# Altium schematic symbol library aiskylab-04Dio-1A.SchLib: 5 symbols
Pins are listed as number, name and electrical type; pins without a type are passive.

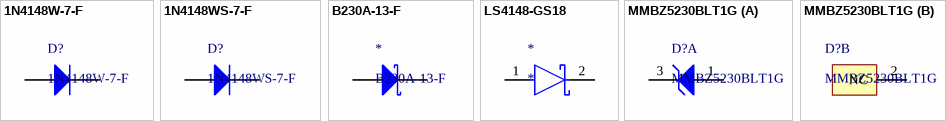
[diagram p0: symbols 1N4148W-7-F to MMBZ5230BLT1G]

## 1N4148W-7-F
designator D?
Fast Switching Diode, 100 V, 0.15 A, -65 to 150 degC, 2-Pin?SOD123, RoHS, Tape and Reel; Recovery Time: 4ns; Brand: DiodesIncorporated; Unit Weight: 0.000353oz; Max Surge Current: 2A; Peak Reverse Voltage: 100V; Ir - Reverse Current: 1uA; Vf - Forward Voltage: 1.25V; Configuration: Single; If - Forward Current: 0.15A; Product Category: Diodes-GeneralPurpose,Power,Switching; Operating Temperature Range: -65Cto+150C; Packaging: Reel; Manufacturer URL: http://www.diodes.com/; Maximum Operating Temperature: +150C; Height: 1.25mm; Minimum Operating Temperature: -65C; Product: SwitchingDiodes; Package URL: http://www.diodes.com/datasheets/ds18004.pdf; Type: SwitchingDiode; Package Reference: SOD123-2; Width: 1.7mm; Datasheet URL: http://www.farnell.com/datasheets/1915529.pdf; Datasheet Version: Rev. 24-2, 10/2013; Series: 1N4148; Factory Pack Quantity: 3000; Length: 2.85mm; RoHS: True; Manufacturer: DiodesIncorporated; Mounting Style: SMD/SMT; Package / Case: SOD-123
footprint SOD-123-1A (2.7x1.6X1.1mm（长宽高，不包括引脚）)
pins: 1 A, 2 K

## 1N4148WS-7-F
designator D?
DIODE GEN PURP 75V 150MA SOD323; Manufacturer: Diodes; Reverse Recovery Time: 4ns; Forward Voltage: 1.25V; Element Configuration: Single; Forward Current: 300mA; Peak Non-Repetitive Surge Current: 2A; Power Dissipation: 200mW; Peak Reverse Current: 1uA; Polarity: Standard; Capacitance: 2pF; Supplier 1: Digi-Key; Manufacturer Part Number: 1N4148WS-7-F; RoHS: Yes; Category: Rectifier Diodes; Stock 1: 937773; Pricing 1: 1=0.17000, 10=0.15300, 25=0.14520, 100=0.06390, 250=0.06136, 500=0.05020, 1000=0.03486 (USD); Mount: Surface Mount; Number of Pins: 2; Weight: 0.000173oz; Contact Plating: Tin,Matte; Min Operating Temperature: -65°C; Max Operating Temperature: 150°C; Packaging: Tape and Reel; Max Repetitive Reverse Voltage (Vrrm): 75V; Package Quantity: 3000; Average Rectified Current: 150mA; Max Reverse Voltage (DC): 75V; Recovery Time: 4ns; Current Rating: 150mA; Max Forward Surge Current (Ifsm): 2A; Max Surge Current: 2A; Voltage Rating (DC): 75V; Output Current: 150mA; Voltage: 75V; Power Rating: 200mW; Length: 1.8mm; Height: 1mm; Width: 1.4mm; Radiation Hardening: No; Lead Free: Lead Free; REACH SVHC: No SVHC; ComponentLink1URL: https://datasheet.ciiva.com/16199/ds30097-16199061.pdf?src-supplier=Future+Electronics; ComponentLink1Description: https://datasheet.ciiva.com/16199/ds30097-16199061.pdf?src-supplier=Future+Electronics; ComponentLink2URL: https://datasheet.ciiva.com/16472/ds30097-16472599.pdf?src-supplier=Avnet+Asia; ComponentLink2Description: https://datasheet.ciiva.com/16472/ds30097-16472599.pdf?src-supplier=Avnet+Asia; ComponentLink3URL: https://datasheet.ciiva.com/1179/ds30097-1179355.pdf?src-supplier=Element14; ComponentLink3Description: https://datasheet.ciiva.com/1179/ds30097-1179355.pdf?src-supplier=Element14; ComponentLink4URL: https://datasheet.ciiva.com/8300/ds30097-8300396.pdf?src-supplier=Avnet; ComponentLink4Description: https://datasheet.ciiva.com/8300/ds30097-8300396.pdf?src-supplier=Avnet; ComponentLink5URL: https://datasheet.ciiva.com/911/ds30097-911741.pdf?src-supplier=Digi-Key; ComponentLink5Description: https://datasheet.ciiva.com/911/ds30097-911741.pdf?src-supplier=Digi-Key; ComponentLink6URL: https://datasheet.ciiva.com/911/ds30097-911742.pdf?src-supplier=Digi-Key; ComponentLink6Description: https://datasheet.ciiva.com/911/ds30097-911742.pdf?src-supplier=Digi-Key; ComponentLink7URL: https://datasheet.ciiva.com/25946/ds30097-25946926.pdf?src-supplier=Avnet+Europe; ComponentLink7Description: https://datasheet.ciiva.com/25946/ds30097-25946926.pdf?src-supplier=Avnet+Europe; ComponentLink8URL: https://datasheet.ciiva.com/911/ds30097-911743.pdf?src-supplier=Digi-Key; ComponentLink8Description: https://datasheet.ciiva.com/911/ds30097-911743.pdf?src-supplier=Digi-Key; Supplier Part Number 1: 1N4148WS-FDICT-ND
footprint DIOD-SOD323-2-A_V (SOD-323, 2-Leads, Body 1.7x1.3mm)
pins: 1 A, 2 K

## B230A-13-F
designator *
B230A-13-F,SCHOTTKY RECTIFIER; Manufacturer: Diodes; Element Configuration: Single; Max Repetitive Reverse Voltage (Vrrm): 30V; Forward Current: 2A; Peak Non-Repetitive Surge Current: 50A; Peak Reverse Current: 500uA; Forward Voltage: 500mV; Polarity: Standard; Capacitance: 200pF; Supplier 1: Digi-Key; Manufacturer Part Number: B230A-13-F; RoHS: Yes; Category: Rectifier Diodes; Stock 1: 36331; Pricing 1: 1=0.45000, 10=0.33900, 25=0.30560, 100=0.16110, 250=0.15944, 500=0.14276, 1000=0.11110, 2500=0.10166 (USD); Mount: Surface Mount; Case/Package: SMA; Number of Pins: 2; Weight: 0.002258oz; Contact Plating: Tin,Matte; Min Operating Temperature: -65°C; Max Operating Temperature: 150°C; Packaging: Tape and Reel; Current Rating: 2A; Max Forward Surge Current (Ifsm): 50A; Max Reverse Voltage (DC): 30V; Average Rectified Current: 2A; Output Current: 2A; Package Quantity: 5000; Termination: SMD/SMT; Voltage Rating (DC): 30V; Length: 4.6mm; Height: 2.1mm; Width: 2.92mm; Radiation Hardening: No; Lead Free: Lead Free; REACH SVHC: No SVHC; ComponentLink1URL: https://datasheet.ciiva.com/27052/1538769-27052351.pdf?src-supplier=Jameco; ComponentLink1Description: https://datasheet.ciiva.com/27052/1538769-27052351.pdf?src-supplier=Jameco; ComponentLink2URL: https://datasheet.ciiva.com/16289/ds13004-16289654.pdf?src-supplier=Future+Electronics; ComponentLink2Description: https://datasheet.ciiva.com/16289/ds13004-16289654.pdf?src-supplier=Future+Electronics; ComponentLink3URL: https://datasheet.ciiva.com/8301/ds13004-8301593.pdf?src-supplier=Avnet; ComponentLink3Description: https://datasheet.ciiva.com/8301/ds13004-8301593.pdf?src-supplier=Avnet; ComponentLink4URL: https://datasheet.ciiva.com/4715/ds13004-70120-4715546.pdf?src-supplier=Mouser; ComponentLink4Description: https://datasheet.ciiva.com/4715/ds13004-70120-4715546.pdf?src-supplier=Mouser; ComponentLink5URL: https://datasheet.ciiva.com/22695/1911814-22695786.pdf?src-supplier=Element14; ComponentLink5Description: https://datasheet.ciiva.com/22695/1911814-22695786.pdf?src-supplier=Element14; Supplier Part Number 1: B230A-FDICT-ND
footprint DIOD-SMA-1A (SMA, 2-Leads, Body 4.3x2.605mm, Height 2.3mm)
pins: 1 A, 2 K

## LS4148-GS18
designator *
Diode Small Signal Switching 100V 0.3A 2-Pin Quadro MELF SOD-80 T/R; Manufacturer: Vishay Semiconductors; Manufacturer Part Number: LS4148-GS18; Forward Voltage: 1V; Reverse Recovery Time: 8ns; Element Configuration: Single; Forward Current: 150mA; Peak Non-Repetitive Surge Current: 2A; Max Reverse Voltage (DC): 75V; Current Rating: 50A; Power Dissipation: 500mW; Peak Reverse Current: 5uA; Max Reverse Leakage Current: 50uA; Supplier 1: Digi-Key; RoHS: Yes; Category: Schottky Diodes; Stock 1: 17992; Pricing 1: 1=0.14000, 10=0.12500, 25=0.11880, 100=0.05230, 250=0.05016, 500=0.04104, 1000=0.02850, 2500=0.02489, 5000=0.02233 (USD); Mount: Surface Mount; Case/Package: SOD-80-2; Number of Pins: 2; Min Operating Temperature: -65°C; Max Operating Temperature: 175°C; Packaging: Tape and Reel; Max Repetitive Reverse Voltage (Vrrm): 100V; Package Quantity: 10000; Average Rectified Current: 150mA; Recovery Time: 8ns; Max Forward Surge Current (Ifsm): 2A; Max Surge Current: 2A; Length: 3.5mm; Height: 1.5mm; Width: 1.7mm; Radiation Hardening: No; Lead Free: Lead Free; REACH SVHC: Unknown; ComponentLink1URL: https://datasheet.ciiva.com/1243/1750358-1243073.pdf?src-supplier=Newark; ComponentLink1Description: https://datasheet.ciiva.com/1243/1750358-1243073.pdf?src-supplier=Newark; ComponentLink2URL: https://datasheet.ciiva.com/39121/1021410-39121498.pdf?src-supplier=Jameco; ComponentLink2Description: https://datasheet.ciiva.com/39121/1021410-39121498.pdf?src-supplier=Jameco; ComponentLink3URL: https://datasheet.ciiva.com/4245/ls4148-4245167.pdf?src-supplier=Arrow; ComponentLink3Description: https://datasheet.ciiva.com/4245/ls4148-4245167.pdf?src-supplier=Arrow; ComponentLink4URL: https://datasheet.ciiva.com/13949/ls4148-13949386.pdf?src-supplier=Digi-Key; ComponentLink4Description: https://datasheet.ciiva.com/13949/ls4148-13949386.pdf?src-supplier=Digi-Key; ComponentLink5URL: https://datasheet.ciiva.com/13949/ls4148-13949387.pdf?src-supplier=Digi-Key; ComponentLink5Description: https://datasheet.ciiva.com/13949/ls4148-13949387.pdf?src-supplier=Digi-Key; ComponentLink6URL: https://datasheet.ciiva.com/13949/ls4148-13949388.pdf?src-supplier=Digi-Key; ComponentLink6Description: https://datasheet.ciiva.com/13949/ls4148-13949388.pdf?src-supplier=Digi-Key; ComponentLink7URL: https://datasheet.ciiva.com/25931/ls4148-25931951.pdf?src-supplier=Avnet+Europe; ComponentLink7Description: https://datasheet.ciiva.com/25931/ls4148-25931951.pdf?src-supplier=Avnet+Europe; Supplier Part Number 1: LS4148-GS18CT-ND
footprint FP-6_560-5006_01-4-MFG
footprint SIOS-1n4148SMT
pins: 1 A, 2 K

## MMBZ5230BLT1G
designator D?
Zener Voltage Regulator, 225 mW, 3-Pin SOT-23, Pb-Free, Tape and Reel; Manufacturer: On Semiconductor; VZ Typ (V): 4.7; Mounting Technology: Surface Mount; DatasheetVersion: Rev. 12; PackageVersion: Rev. AP, 11/2009; PackageReference: SOT-23-3-318-08; PackageDescription: 3-Pin Small Outline Transistor, Body 2.92 x 1.3 mm, Pitch 0.95 mm; ComponentLink2Description: Datasheet; RoHS: Pb-Free; ComponentLink1Description: Manufacturer URL; ComponentLink2URL: http://www.onsemi.cn/pub_link/Collateral/MMBZ5221BLT1-D.PDF; ComponentLink3URL: http://www.onsemi.cn/pub_link/Collateral/318-08.PDF; Packing: Tape and Reel; ComponentLink1URL: http://www.onsemi.com/; PartNumber: MMBZ5230BLT1G; ComponentLink3Description: Package Specification
footprint SOT23-3 (3x1.3x1mm(长宽高))
part A pins: 1 A, 3 K
part B pins: 2 NC